# Altium footprint library 0603.PcbLib: 1 footprints
Each footprint in its own frame and in the unit in brackets; x right, y up, seen from the top. Pads: shape width x height; smd on the part's side, far side on the other; paste and mask are expansions set on the pad; w line width, h text height; cw(c..) or ccw(c..) is an arc to the next point about the centre after c.
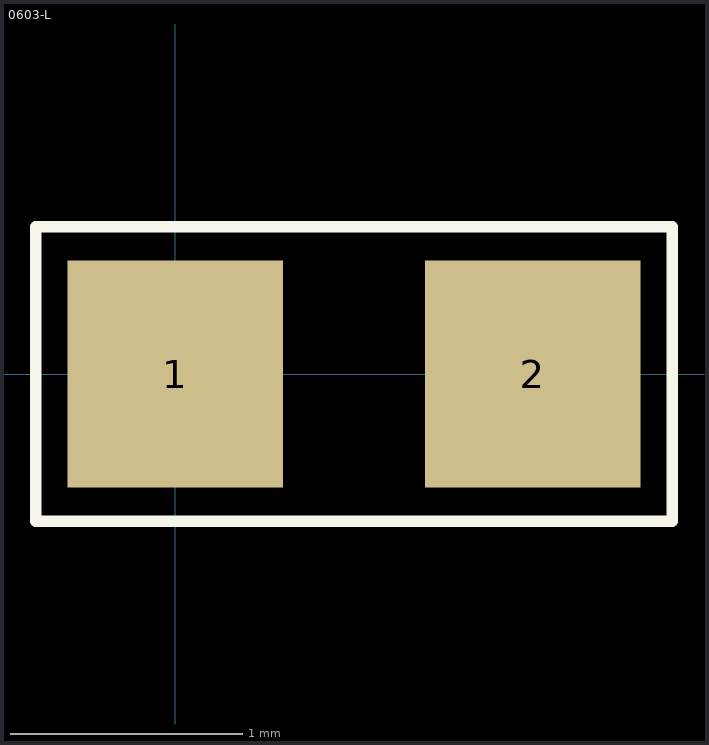
[diagram p0: the footprint, top view; thin cyan lines are the x and y axes]

## 0603-L [mm]
pads (2):
  rect 0.93x0.98 smd: 1(0,0) 2(1.54,0)
Top Overlay:
  lines w0.051: -0.602,-0.635 -0.602,0.635 2.142,0.635 2.142,-0.635 -0.602,-0.635
3D body "L0603.STEP": height 0.46, standoff -0.01, extent -0.055,-0.412 1.595,0.413